# EAGLE library part CON_HE10_12P (library IUTV3)
PIN HEADER
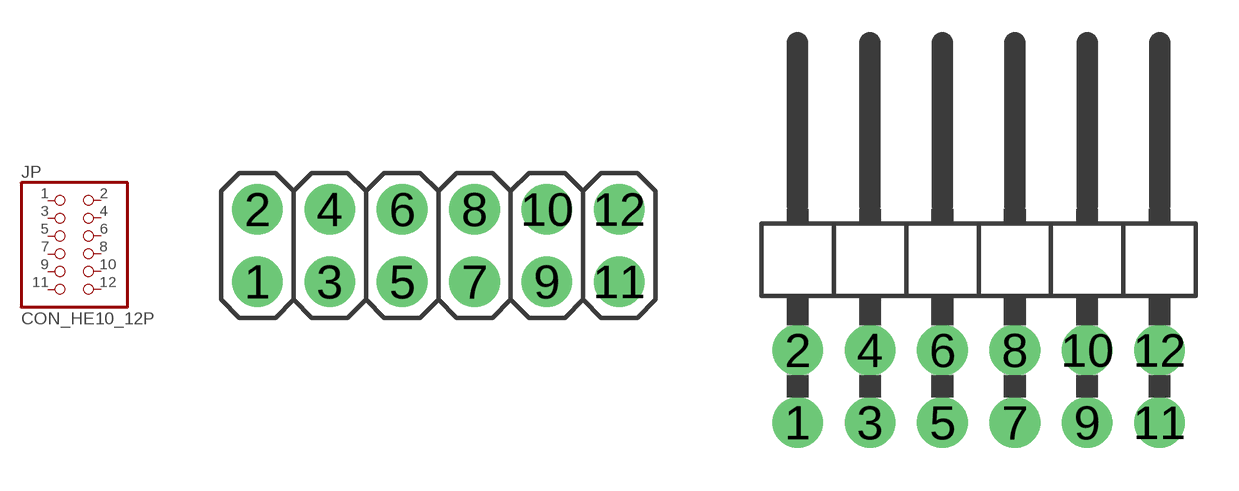
[diagram p40: symbol with the pads of 2X06; footprints 2X06, 2X06/90]

Designator prefix JP

## CON_HE10_12P (MF: HARWIN; MOT_CLES_FARNELL: Connecteur fil-à-carte,Embase 12p 2.54 mm; MOT_CLES_RADIOSPARE: Embases de circuit imprimé, Vertical Traversant 12p 2.54 mm; MPN: M20-9980646; OC_FARNELL: 1022238)  [2X06]
1  1  pas
2  2  pas
3  3  pas
4  4  pas
5  5  pas
6  6  pas
7  7  pas
8  8  pas
9  9  pas
10  10  pas
11  11  pas
12  12  pas

## CON_HE10_12P/90 (MOT_CLES_FARNELL: Connecteur fil-à-carte,Embase 08p 2.54 mm; MOT_CLES_RADIOSPARE: Embases de circuit imprimé, horizontal Traversant 08p 2.54 mm; OC_FARNELL: 1206008)  [2X06/90]
Pads as for 2X06

## Footprint 2X06 (pad centres in mm)
PIN HEADER
drill 1 pad 1.778: 1 -6.35,-1.27; 2 -6.35,1.27; 3 -3.81,-1.27; 4 -3.81,1.27; 5 -1.27,-1.27; 6 -1.27,1.27; 7 1.27,-1.27; 8 1.27,1.27; 9 3.81,-1.27; 10 3.81,1.27; 11 6.35,-1.27; 12 6.35,1.27

## Footprint 2X06/90 (pad centres in mm)
PIN HEADER
drill 1 pad 1.778: 1 -6.35,-6.35; 2 -6.35,-3.81; 3 -3.81,-6.35; 4 -3.81,-3.81; 5 -1.27,-6.35; 6 -1.27,-3.81; 7 1.27,-6.35; 8 1.27,-3.81; 9 3.81,-6.35; 10 3.81,-3.81; 11 6.35,-6.35; 12 6.35,-3.81